# Altium schematic symbol library AutoMOO_Schematic_Library.SchLib: 2 symbols
Pins are listed as number, name and electrical type; pins without a type are passive.

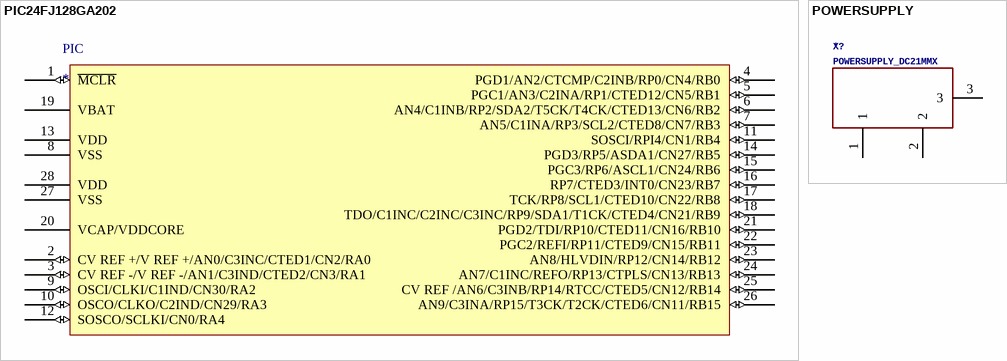
[diagram p0: symbols PIC24FJ128GA202 to POWERSUPPLY]

## PIC24FJ128GA202
designator PIC
footprint SPDIP300-SP28 (DIP, 28-Leads, Row Spacing 7.62mm, Pitch 2.54mm, Body 34.9x6.8mm)
pins: 1 ~{MCLR} (io) "Master Clear (device Reset) Input. This line is  brought low to cause a Reset.", 2 CV REF +/V REF +/AN0/C3INC/CTED1/CN2/RA0 (io), 3 CV REF -/V REF -/AN1/C3IND/CTED2/CN3/RA1 (io), 4 PGD1/AN2/CTCMP/C2INB/RP0/CN4/RB0 (io), 5 PGC1/AN3/C2INA/RP1/CTED12/CN5/RB1 (io), 6 AN4/C1INB/RP2/SDA2/T5CK/T4CK/CTED13/CN6/RB2 (io), 7 AN5/C1INA/RP3/SCL2/CTED8/CN7/RB3 (io), 8 VSS (power), 9 OSCI/CLKI/C1IND/CN30/RA2 (io), 10 OSCO/CLKO/C2IND/CN29/RA3 (io), 11 SOSCI/RPI4/CN1/RB4 (io), 12 SOSCO/SCLKI/CN0/RA4 (io), 13 VDD (power), 14 PGD3/RP5/ASDA1/CN27/RB5 (io), 15 PGC3/RP6/ASCL1/CN24/RB6 (io), 16 RP7/CTED3/INT0/CN23/RB7 (io), 17 TCK/RP8/SCL1/CTED10/CN22/RB8 (io), 18 TDO/C1INC/C2INC/C3INC/RP9/SDA1/T1CK/CTED4/CN21/RB9 (io), 19 VBAT, 20 VCAP/VDDCORE (power), 21 PGD2/TDI/RP10/CTED11/CN16/RB10 (io), 22 PGC2/REFI/RP11/CTED9/CN15/RB11 (io), 23 AN8/HLVDIN/RP12/CN14/RB12 (io), 24 AN7/C1INC/REFO/RP13/CTPLS/CN13/RB13 (io), 25 CV REF /AN6/C3INB/RP14/RTCC/CTED5/CN12/RB14 (io), 26 AN9/C3INA/RP15/T3CK/T2CK/CTED6/CN11/RB15 (io), 27 VSS (power), 28 VDD (power)

## POWERSUPPLY
designator X?, comment POWERSUPPLY_DC21MMX
GateName_1: G$1; SymbolName_1: POWERSUPPLY_DC21PWR; DeviceName: X; LibraryName: SmartPrj; DeviceSetName: POWERSUPPLY_DC21MM; NAME: *
footprint POWERSUPPLY (POWERSUPPLY_DC-21MM)
pins: 1 (power), 2 (power), 3 (power)